# Altium footprint library PcbLib1.PcbLib: 2 footprints
Each footprint in its own frame and in the unit in brackets; x right, y up, seen from the top. Pads: shape width x height; smd on the part's side, far side on the other; paste and mask are expansions set on the pad; w line width, h text height; cw(c..) or ccw(c..) is an arc to the next point about the centre after c.
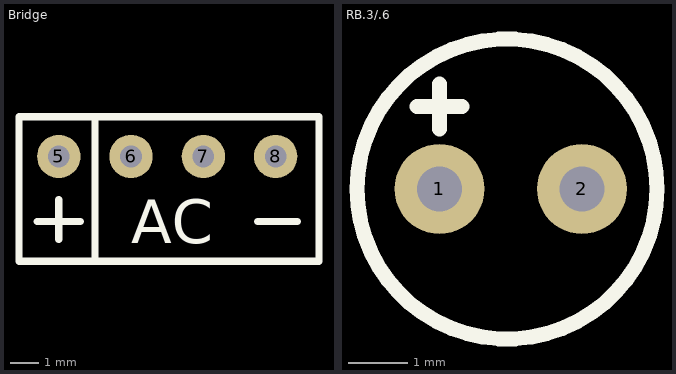
[diagram p0: the footprints below, top view; thin cyan lines are the x and y axes]

## Bridge [mil]
pads (4):
  round 60 hole 30: 5(-29200,-20455) 6(-29100,-20455) 7(-29000,-20455) 8(-28900,-20455)
Top Overlay:
  lines w10: -29230,-20545 -29170,-20545 ; -29200,-20570 -29200,-20515 ; -29150,-20595 -29150,-20400 ; -28925,-20545 -28870,-20545 ; -29255,-20600 -29255,-20400 -28840,-20400 -28840,-20600 -29255,-20600
  text "AC" at -29100,-20575 h60

## RB.3/.6 [mil]
pads (2):
  round 60 hole 30: 1(-29145,-20600) 2(-29050,-20600)
Top Overlay:
  circle w10: c-29100,-20600 r100
  lines w10: -29160,-20545 -29130,-20545 ; -29145,-20560 -29145,-20530